# Altium schematic symbol library RFID_RC522.SchLib: 1 symbol
Pins are listed as number, name and electrical type; pins without a type are passive.

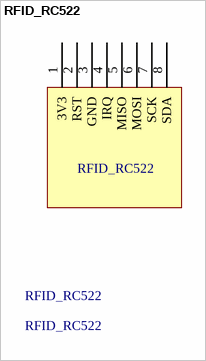
[diagram p0: symbol RFID_RC522]

## RFID_RC522
designator RFID_RC522
footprint RFID_RC522
pins: 1 3V3, 2 RST, 3 GND, 4 IRQ, 5 MISO, 6 MOSI, 7 SCK, 8 SDA